# Altium schematic symbol library Schlib1.SchLib: 10 symbols
Pins are listed as number, name and electrical type; pins without a type are passive.

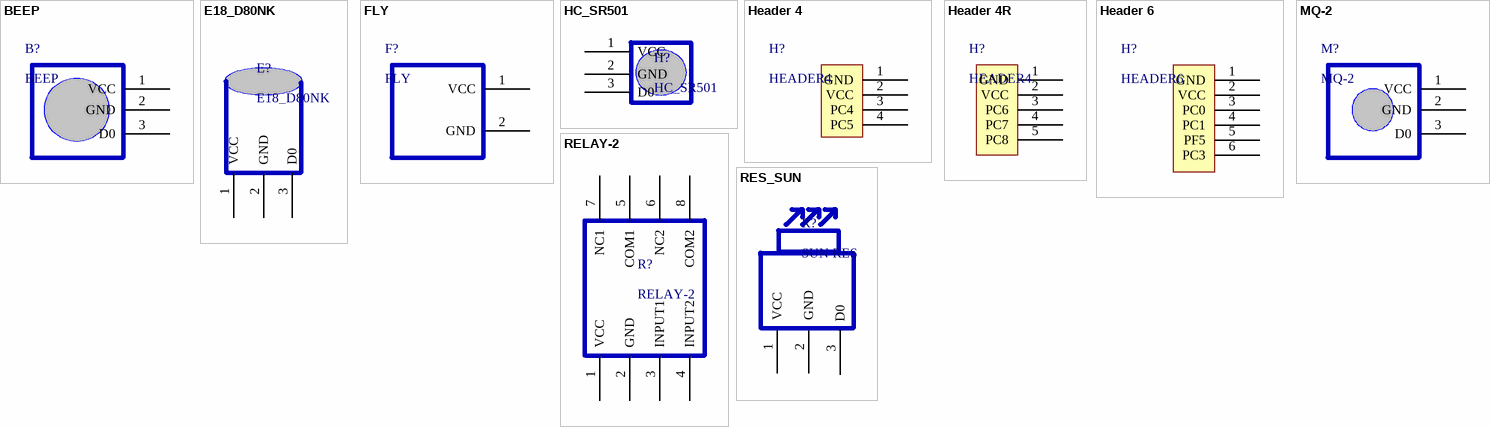
[diagram p0: symbols BEEP to RES_SUN]

## BEEP
designator B?
pins: 1 VCC, 2 GND, 3 D0

## E18_D80NK
designator E?
pins: 1 VCC, 2 GND, 3 D0

## FLY
designator F?
pins: 1 VCC, 2 GND

## HC_SR501
designator H?
pins: 1 VCC, 2 GND, 3 D0

## Header 4
designator H?, comment HEADER4
pins: 1 GND, 2 VCC, 3 PC4, 4 PC5

## Header 4R
designator H?, comment HEADER4
pins: 1 GND, 2 VCC, 3 PC6, 4 PC7, 5 PC8

## Header 6
designator H?, comment HEADER6
pins: 1 GND, 2 VCC, 3 PC0, 4 PC1, 5 PF5, 6 PC3

## MQ-2
designator M?
pins: 1 VCC, 2 GND, 3 D0

## RELAY-2
designator R?
pins: 1 VCC, 2 GND, 3 INPUT1, 4 INPUT2, 5 COM1, 6 NC2, 7 NC1, 8 COM2

## RES_SUN
designator R?, comment SUN RES
pins: 1 VCC, 2 GND, 3 D0